# EAGLE library part BOOSTER.13 (library dcc)
Booster V1.3
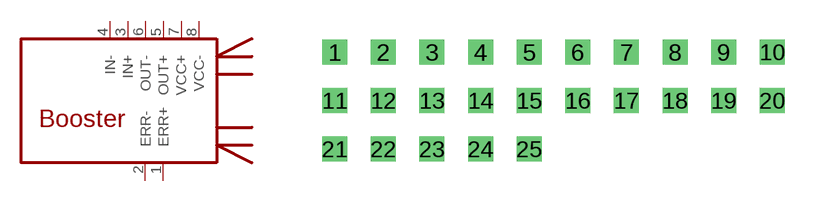
[diagram p0: symbol with the pads of DUMMY25; footprint DUMMY25]

Designator prefix -

## BOOSTER.13  [DUMMY25]
1  ERR+
2  ERR-
3  IN+
4  IN-
5  OUT+
6  OUT-
7  VCC+
8  VCC-

## Footprint DUMMY25 (pad centres in mm)
drill 0.8 square: 1 -11.43,0; 2 -8.89,0; 3 -6.35,0; 4 -3.81,0; 5 -1.27,0; 6 1.27,0; 7 3.81,0; 8 6.35,0; 9 8.89,0; 10 11.43,0; 11 -11.43,-2.54; 12 -8.89,-2.54; 13 -6.35,-2.54; 14 -3.81,-2.54; 15 -1.27,-2.54; 16 1.27,-2.54; 17 3.81,-2.54; 18 6.35,-2.54; 19 8.89,-2.54; 20 11.43,-2.54; 21 -11.43,-5.08; 22 -8.89,-5.08; 23 -6.35,-5.08; 24 -3.81,-5.08; 25 -1.27,-5.08